# Altium footprint library LEDs.PcbLib: 1 footprints
Each footprint in its own frame and in the unit in brackets; x right, y up, seen from the top. Pads: shape width x height; smd on the part's side, far side on the other; paste and mask are expansions set on the pad; w line width, h text height; cw(c..) or ccw(c..) is an arc to the next point about the centre after c.
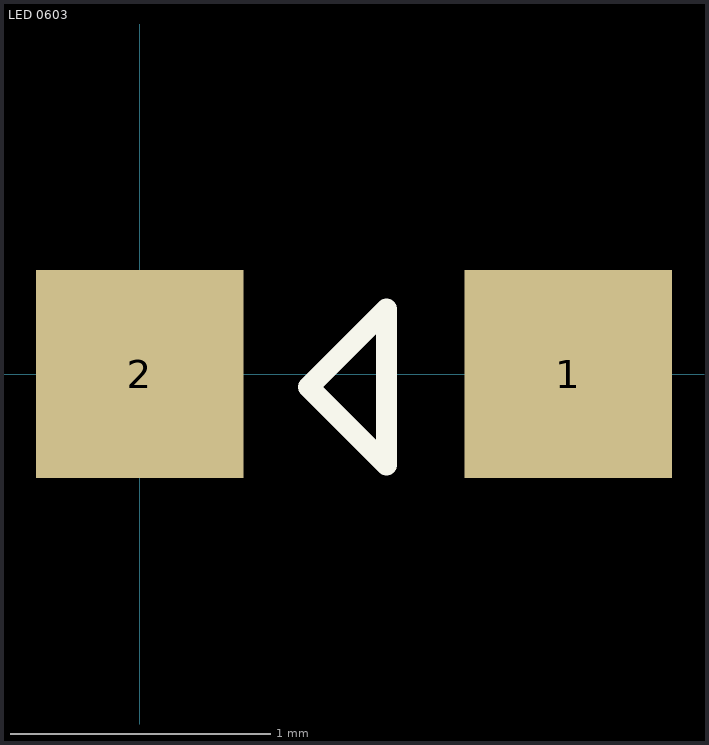
[diagram p0: the footprint, top view; thin cyan lines are the x and y axes]

## LED 0603 [mm] "1.6mmX0.8mm SMD, 2mA"
pads (2):
  rect 0.8x0.8 smd: 1(1.65,0) 2(0,0)
Top Overlay:
  lines w0.08: 0.65,-0.05 0.95,0.25 0.95,-0.35 0.65,-0.05